# Altium schematic symbol library FerriteBeads.SchLib: 2 symbols
Pins are listed as number, name and electrical type; pins without a type are passive.

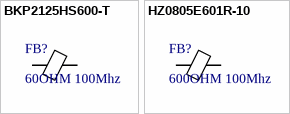
[diagram p0: symbols BKP2125HS600-T to HZ0805E601R-10]

## BKP2125HS600-T
designator FB?, comment 60OHM 100Mhz
60 OHMS at 100MHz 25mOhm DC 0805; Manufacturer 1: Taiyo Yuden; Manufacturer Part Number 1: BKP2125HS600-T
footprint 0805 (Chip Inductor, 2-Leads, Body 2.00x1.25mm, IPC Medium Density)
pins: 1, 2

## HZ0805E601R-10
designator FB?, comment 600OHM 100Mhz
FERRITE BEAD 600 OHM 0805; Manufacturer 1: Laird-Signal Integrity; Manufacturer Part Number 1: HZ0805E601R-10
footprint 0805 (Chip Inductor, 2-Leads, Body 2.00x1.25mm, IPC Medium Density)
pins: 1, 2